# EAGLE library part ATTINY10-SOT23-6 (library gee_s)
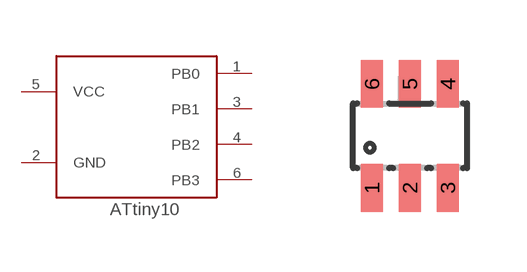
[diagram p1: symbol with the pads of SOT23-6; footprint SOT23-6]

Designator prefix -

## ATTINY10-SOT23-6  [SOT23-6]
1  PB0
2  GND
3  PB1
4  PB2
5  VCC
6  PB3

## Footprint SOT23-6 (pad centres in mm)
smd 0.55 x 1.2: 1 -0.95,-1.3; 2 0,-1.3; 3 0.95,-1.3; 4 0.95,1.3; 5 0,1.3; 6 -0.95,1.3